# EAGLE library part LTC3879 (library PowerProducts)
LT-Spice library generated with : ltspice.ulp from: D:/Program Files (x86)/LTC/LTspiceIV/lib/sym/PowerProducts/LTC3890-1*.asy at 07.10.2012 18:42:44
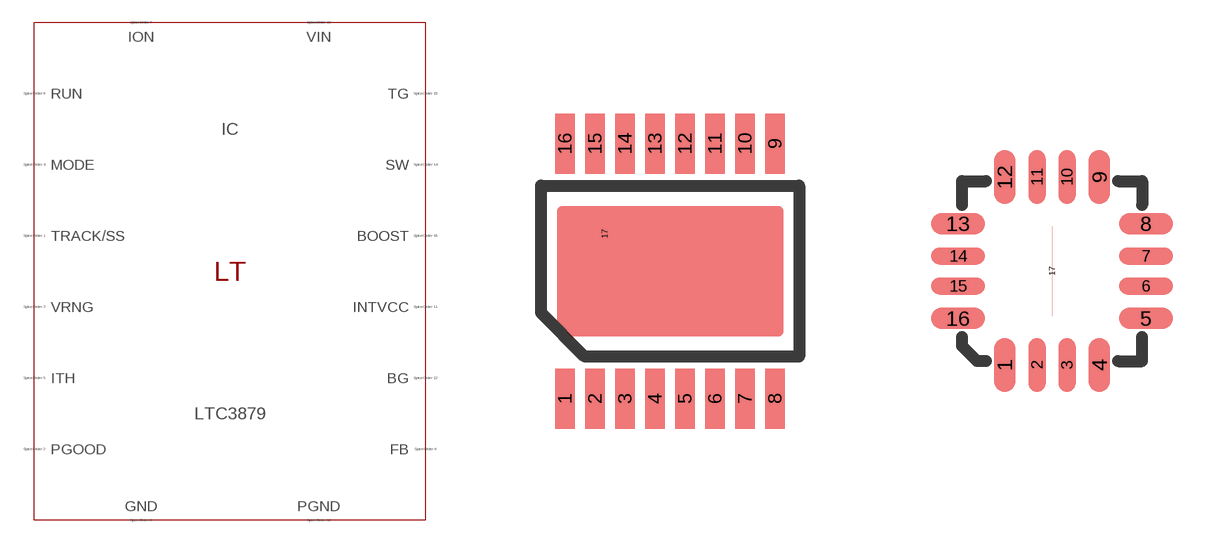
[diagram p392: symbol with the pads of MSOP16(MSE); footprints MSOP16(MSE), QFN16(UD)]

Designator prefix IC

## LTC3879 (SPICEMODEL: LTC3879.sub; SPICEPREFIX: X; VALUE2: LTC3879)  [MSOP16(MSE)]
1  TRACK/SS  pas
2  PGOOD  pas
3  VRNG  pas
4  MODE  pas
5  ITH  pas
6  GND  pas
7  ION  pas
8  FB  pas
9  RUN  pas
10  VIN  pas
11  INTVCC  pas
12  BG  pas
13  PGND  pas
14  SW  pas
15  TG  pas
16  BOOST  pas
17  GND  pas

## LTC3879UD (SPICEMODEL: LTC3879.sub; SPICEPREFIX: X; VALUE2: LTC3879)  [QFN16(UD)]
Pads as for MSOP16(MSE)

## Footprint MSOP16(MSE) (pad centres in mm)
Package generated from: MSOP16(MSE).asc (!PADS-POWERPCB-V9.3-BASIC! DESIGN DATABASE ASCII FILE 1.0) with :import-pads-powerpcb-v5.ulp Version 1.0.1 at 04.10.2012 14:11:19
smd 0.495 x 1.5: 1 -2.625,-3.188; 2 -1.875,-3.188; 3 -1.125,-3.188; 4 -0.375,-3.188; 5 0.375,-3.188; 6 1.125,-3.188; 7 1.875,-3.188; 8 2.625,-3.188; 9 2.625,3.188; 10 1.875,3.188; 11 1.125,3.188; 12 0.375,3.188; 13 -0.375,3.188; 14 -1.125,3.188; 15 -1.875,3.188; 16 -2.625,3.188
smd 0 x 0.525: 17 -1.635,0.93

## Footprint QFN16(UD) (pad centres in mm)
Package generated from: QFN16(UD).asc (!PADS-POWERPCB-V9.3-BASIC! DESIGN DATABASE ASCII FILE 1.0) with :import-pads-powerpcb-v5.ulp Version 1.0.1 at 04.10.2012 14:11:23
smd 0.54 x 1.35: 1 -1.185,-2.348; 4 1.185,-2.348; 9 1.185,2.348; 12 -1.185,2.348
smd 0.42 x 1.35: 2 -0.375,-2.348; 3 0.375,-2.348; 10 0.375,2.348; 11 -0.375,2.348
smd 1.35 x 0.54: 5 2.348,-1.185; 8 2.348,1.185; 13 -2.348,1.185; 16 -2.348,-1.185
smd 1.35 x 0.42: 6 2.348,-0.375; 7 2.348,0.375; 14 -2.348,0.375; 15 -2.348,-0.375
smd 0 x 2.25: 17 0,0